# Altium footprint library MSP430.PcbLib: 3 footprints
Each footprint in its own frame and in the unit in brackets; x right, y up, seen from the top. Pads: shape width x height; smd on the part's side, far side on the other; paste and mask are expansions set on the pad; w line width, h text height; cw(c..) or ccw(c..) is an arc to the next point about the centre after c.
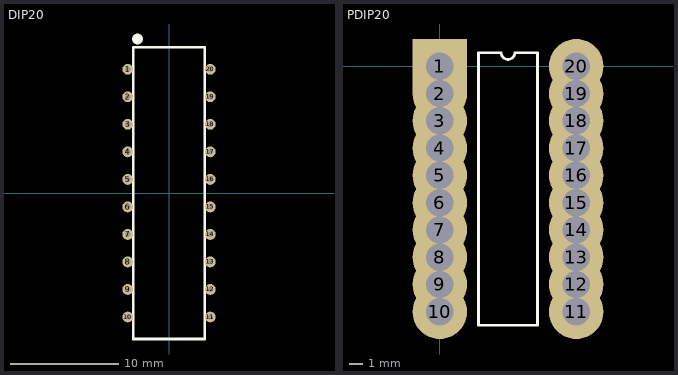
[diagram p0: the footprints below, top view; thin cyan lines are the x and y axes]

## DIP20 [mm]
pads (20):
  round 1 hole 0.5: 1(-3.81,11.43) 2(-3.81,8.89) 3(-3.81,6.35) 4(-3.81,3.81) 5(-3.81,1.27) 6(-3.81,-1.27) 7(-3.81,-3.81) 8(-3.81,-6.35) 9(-3.81,-8.89) 10(-3.81,-11.43) 11(3.81,-11.43) 12(3.81,-8.89) 13(3.81,-6.35) 14(3.81,-3.81) 15(3.81,-1.27) 16(3.81,1.27) 17(3.81,3.81) 18(3.81,6.35) 19(3.81,8.89) 20(3.81,11.43)
Top Overlay:
  lines w0.254: -3.3,-13.46 3.3,-13.46 3.3,13.46 -3.3,13.46 -3.3,-13.46
  lines w1: -2.921,14.224 -2.921,14.224
3D body "User Library-20 pin dip.step": height 5.15, standoff -1.07, extent -3.937,-12.89 3.937,12.891

## PCBComponent_1 [mm]

## PDIP20 [mm]
pads (20):
  rect 4x4 hole 2: 1(0,0)
  round 4 hole 2: 2(0,-2) 3(0,-4) 4(0,-6) 5(0,-8) 6(0,-10) 7(0,-12) 8(0,-14) 9(0,-16) 10(0,-18) 11(10,-18) 12(10,-16) 13(10,-14) 14(10,-12) 15(10,-10) 16(10,-8) 17(10,-6) 18(10,-4) 19(10,-2) 20(10,0)
Top Overlay:
  lines w0.2: 2.835,-19 2.835,1 4.5,1 ccw(c5,1) 5.5,1 7.165,1 7.165,-19 2.835,-19
3D body: height 0.25, standoff 0, extent 5.334,-4.445 5.334,-4.445
3D body: height 0.25, standoff 0, extent 4.699,1.27 4.699,1.27
3D body "User Library-20 pin dip.step": height 4.65, standoff -1.57, extent 1.016,-21.844 8.89,3.937